# Altium schematic symbol library SnapEDAsch.SchLib: 1 symbol
Pins are listed as number, name and electrical type; pins without a type are passive.

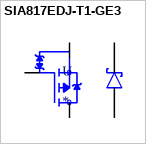
[diagram p0: symbol SIA817EDJ-T1-GE3]

## SIA817EDJ-T1-GE3
designator U
P-Channel 30V 4.5A (Tc) 1.9W (Ta), 6.5W (Tc) Surface Mount PowerPAKÂ® SC-70-6 Dual; MP: SIA817EDJ-T1-GE3; MF: Vishay Siliconix; SnapEDA_Link: https://www.snapeda.com/parts/SIA817EDJ-T1-GE3/Vishay%20Siliconix/view-part/519296/?ref=snap; Value: *; Digi-Key_Part_Number: SIA817EDJ-T1-GE3CT-ND; DigiKey-Purchase-URL: https://snapeda.com/shop?store=DigiKey&id=519296; Package: SC-70-6 Vishay Siliconix
footprint TRANS_SIA817EDJ-T1-GE3
pins: 1 A, 3 D, 4 S, 5 G, 6 K, 7 K, 8 D